# Altium footprint library IC_SN74LVC8T245RHLR.PcbLib: 1 footprints
Each footprint in its own frame and in the unit in brackets; x right, y up, seen from the top. Pads: shape width x height; smd on the part's side, far side on the other; paste and mask are expansions set on the pad; w line width, h text height; cw(c..) or ccw(c..) is an arc to the next point about the centre after c.
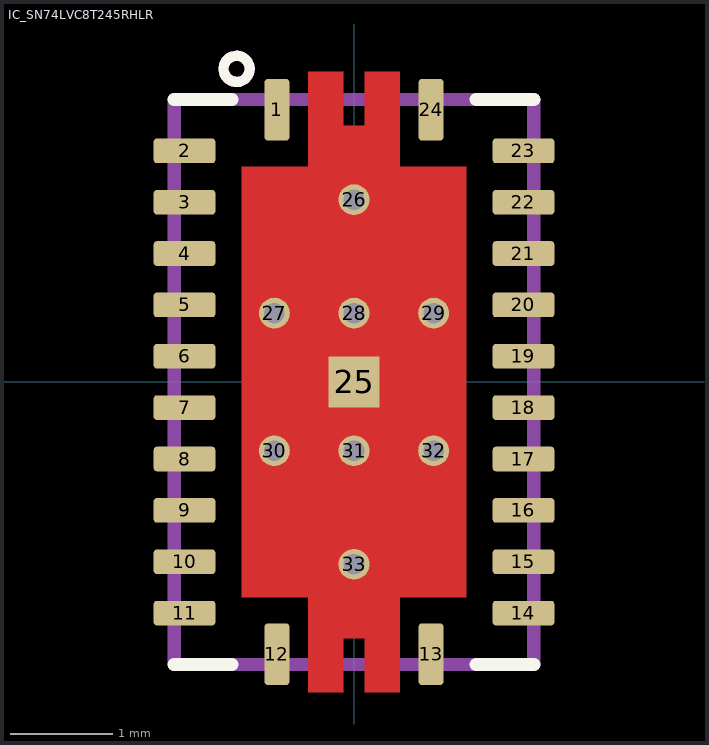
[diagram p0: the footprint, top view; thin cyan lines are the x and y axes]

## IC_SN74LVC8T245RHLR [mm]
pads (33):
  rrect25% 0.24x0.6 smd: 1(-0.75,2.65) 12(-0.75,-2.65) 13(0.75,-2.65) 24(0.75,2.65)
  rrect25% 0.6x0.24 smd: 2(-1.65,2.25) 3(-1.65,1.75) 4(-1.65,1.25) 5(-1.65,0.75) 6(-1.65,0.25) 7(-1.65,-0.25) 8(-1.65,-0.75) 9(-1.65,-1.25) 10(-1.65,-1.75) 11(-1.65,-2.25) 14(1.65,-2.25) 15(1.65,-1.75) 16(1.65,-1.25) 17(1.65,-0.75) 18(1.65,-0.25) 19(1.65,0.25) 20(1.65,0.75) 21(1.65,1.25) 22(1.65,1.75) 23(1.65,2.25)
  rect 0.5x0.5 smd paste-1 mask+0: 25(0,0)
  round 0.3 hole 0.2 mask+0: 26(0,1.775) 27(-0.775,0.67) 28(0,0.67) 29(0.775,0.67) 30(-0.775,-0.67) 31(0,-0.67) 32(0.775,-0.67) 33(0,-1.775)
Top Layer:
  region: 0.445,2.095 1.095,2.095 1.095,-2.095 0.445,-2.095 0.445,-3.02 0.105,-3.02 0.105,-2.495 -0.105,-2.495 -0.105,-3.02 -0.445,-3.02 -0.445,-2.095 -1.095,-2.095 -1.095,2.095 -0.445,2.095 -0.445,3.02 -0.105,3.02 -0.105,2.495 0.105,2.495 0.105,3.02 0.445,3.02
Top Overlay:
  circle w0.1: c-1.143,3.048 r0.127
  lines w0.127: -1.75,-2.75 -1.19,-2.75 ; -1.75,2.75 -1.19,2.75 ; 1.19,-2.75 1.75,-2.75 ; 1.19,2.75 1.75,2.75
Top Paste:
  region: 0.375,-2.95 0.175,-2.95 0.175,-2.425 -0.175,-2.425 -0.175,-2.95 -0.375,-2.95 -0.375,-2.11 0.375,-2.11
  region: 0.375,2.11 -0.375,2.11 -0.375,2.95 -0.175,2.95 -0.175,2.425 0.175,2.425 0.175,2.95 0.375,2.95
  region: 1.025,0.77 0.1,0.77 0.1,1.91 1.025,1.91
  region: -0.1,0.77 -1.025,0.77 -1.025,1.91 -0.1,1.91
  region: 1.025,-1.91 0.1,-1.91 0.1,-0.77 1.025,-0.77
  region: -0.1,-1.91 -1.025,-1.91 -1.025,-0.77 -0.1,-0.77
  region: 1.025,-0.57 0.1,-0.57 0.1,0.57 1.025,0.57
  region: -0.1,-0.57 -1.025,-0.57 -1.025,0.57 -0.1,0.57
Top Solder:
  region: 0.375,2.025 1.025,2.025 1.025,-2.025 0.375,-2.025 0.375,-2.95 0.175,-2.95 0.175,-2.425 -0.175,-2.425 -0.175,-2.95 -0.375,-2.95 -0.375,-2.025 -1.025,-2.025 -1.025,2.025 -0.375,2.025 -0.375,2.95 -0.175,2.95 -0.175,2.425 0.175,2.425 0.175,2.95 0.375,2.95
Mechanical 13:
  circle w0.1: c-1.143,3.048 r0.127
  lines w0.127: -1.75,-2.75 -1.75,2.75 1.75,2.75 1.75,-2.75 -1.75,-2.75
3D body "step_temp.STEP": height 1, standoff 0, extent -1.75,-2.75 1.75,2.75